# Altium footprint library cy.PcbLib: 99 footprints (part 7 of 7)
Each footprint in its own frame and in the unit in brackets; x right, y up, seen from the top. Pads: shape width x height; smd on the part's side, far side on the other; paste and mask are expansions set on the pad; w line width, h text height; cw(c..) or ccw(c..) is an arc to the next point about the centre after c.
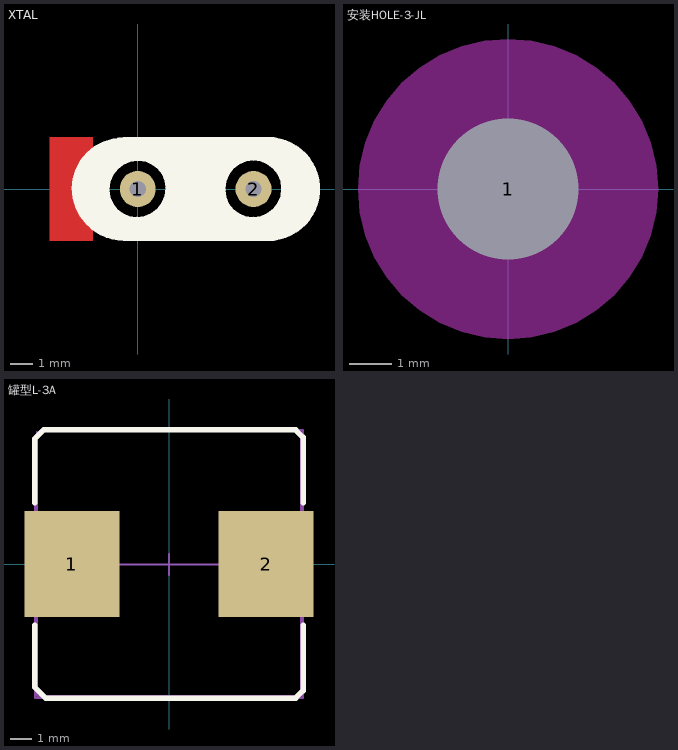
[diagram p6: the footprints below, top view; thin cyan lines are the x and y axes]

## XTAL [mil]
pads (2):
  round 62 hole 28: 1(0,0) 2(200,0)
Top Layer:
  region: -152.56,89.98 -152.56,-90.02 -77.56,-90.02 -77.56,89.98
Top Overlay:
  region: 312.02,0 310.32,17.28 305.28,33.89 297.1,49.21 286.08,62.63 272.66,73.64 257.35,81.83 240.73,86.87 223.45,88.57 223.45,88.15 -26.26,88.57 -43.34,86.88 -59.77,81.9 -74.91,73.81 -88.18,62.92 -99.07,49.65 -107.16,34.51 -112.14,18.08 -113.82,1 -113.83,1 -112.13,-16.25 -107.1,-32.84 -98.93,-48.13 -87.93,-61.53 -74.53,-72.52 -59.24,-80.69 -42.65,-85.73 -25.4,-87.43 -25.4,-87 -1.4,-87 -1.4,-49 -2.4,-48.4 -14.41,-46.82 -25.6,-42.18 -35.21,-34.81 -42.58,-25.2 -47.22,-14.01 -48.8,-2 -48.4,-2 -48.82,0 -47.17,12.53 -42.33,24.21 -34.64,34.23 -24.61,41.93 -12.93,46.76 -0.4,48.41 -0.4,48 2.6,48.39 14.42,46.83 25.43,42.27 34.88,35.02 42.14,25.56 46.7,14.55 48.26,2.73 47.87,2.73 48.29,1 46.61,-11.79 41.67,-23.71 33.82,-33.95 23.58,-41.8 11.66,-46.74 -1.13,-48.42 -1.13,-48 -1.4,-48 -1.4,-87 199.6,-87 199.6,-48 197.6,-48.4 185.59,-46.82 174.4,-42.18 164.79,-34.81 157.42,-25.2 152.78,-14.01 151.2,-2 151.6,-2 151.18,1 152.83,13.53 157.67,25.21 165.36,35.23 175.39,42.93 187.07,47.76 199.6,49.41 199.6,49 199.87,49.41 212.4,47.76 224.08,42.93 234.1,35.23 241.8,25.21 246.63,13.53 248.28,1 247.87,1 248.28,0.27 246.63,-12.33 241.76,-24.07 234.02,-34.16 223.94,-41.89 212.2,-46.76 199.6,-48.42 199.6,-48 199.6,-87 224.6,-87.42 241.65,-85.74 258.05,-80.77 273.17,-72.69 286.41,-61.82 297.29,-48.57 305.36,-33.45 310.34,-17.05
  lines w3.94: -24,-88 228,-88 ; -24,88 226,88 ; -23.68,-87.5 cw(c-23.68,-0.18) -23.68,87.15 ; -23,-68.5 227,-68.5 ; -22,68.5 228,68.5 ; -19.68,-68.51 cw(c-19.68,-0.18) -19.68,68.16 ; 225,-88.05 ccw(c225,0) 225,88.05 ; 227.68,-69.16 ccw(c227.68,-0.82) 227.68,67.51
Top Solder:
  lines w39.37: -111.23,-64.22 cw(c0,0) -111.23,64.22
3D body: height 132.28, standoff 0, extent -89.33,-69.33 296.33,69.33
3D body: height 28.54, standoff 0, extent -111.43,-88.43 313.43,88.43

## 安装HOLE-3-JL [mm]
pads (1):
  round 3.2 hole 3.302 unplated: 1(0,0)
Keep-Out Layer:
  pour cut-out: 3.511,0 3.468,0.549 3.339,1.085 3.128,1.594 2.84,2.064 2.483,2.483 2.064,2.84 1.594,3.128 1.085,3.339 0.549,3.468 0,3.511 -0.549,3.468 -1.085,3.339 -1.594,3.128 -2.064,2.84 -2.483,2.483 -2.84,2.064 -3.128,1.594 -3.339,1.085 -3.468,0.549 -3.511,0 -3.468,-0.549 -3.339,-1.085 -3.128,-1.594 -2.84,-2.064 -2.483,-2.483 -2.064,-2.84 -1.594,-3.128 -1.085,-3.339 -0.549,-3.468 0,-3.511 0.549,-3.468 1.085,-3.339 1.594,-3.128 2.064,-2.84 2.483,-2.483 2.84,-2.064 3.128,-1.594 3.339,-1.085 3.468,-0.549

## 罐型L-3A [mm] "Precision Wire Wound Inductor, 2-Leads, Body 12.6x12.6mm, IPC Medium Density"
height 6.5
pads (2):
  rect 4.5x5 smd: 1(-4.6,0) 2(4.6,0)
Top Overlay:
  lines w0.254: -6.35,-2.9 -6.35,-5.839 -5.839,-6.35 5.997,-6.35 6.35,-5.997 6.35,-2.9 ; -6.35,2.9 -6.35,5.941 -5.941,6.35 5.997,6.35 6.35,5.997 6.35,2.9
Mechanical 13:
  lines w0.1: -6.35,-6.35 6.35,-6.35 6.35,6.35 -6.043,6.35 -6.35,6.043 -6.35,-6.35
Mechanical 15:
  lines w0.1: -6.25,-0.019 6.25,-0.019 ; -6.25,6.25 -6.25,-6.25 6.25,-6.25 6.25,6.25 ; -0.5,-0.019 0.5,-0.019 ; 0,-0.519 0,0.481
3D body: height 0.75, standoff 0, extent 2.883,-2.426 6.414,2.464
3D body: height 0.75, standoff 0, extent -6.363,-2.426 -2.832,2.464
3D body: height 0.75, standoff 0, extent -5.969,-6.039 5.969,6.001
3D body: height 5.9, standoff 5.75, extent -4.731,-4.76 4.731,4.721
3D body: height 5.85, standoff 5.75, extent -5.26,-5.238 5.199,5.241
3D body: height 5.75, standoff 0.75, extent -5.976,-6.007 5.976,5.969